# Altium schematic symbol library SCH-95490_A1_Library.SchLib: 55 symbols
Pins are listed as number, name and electrical type; pins without a type are passive.

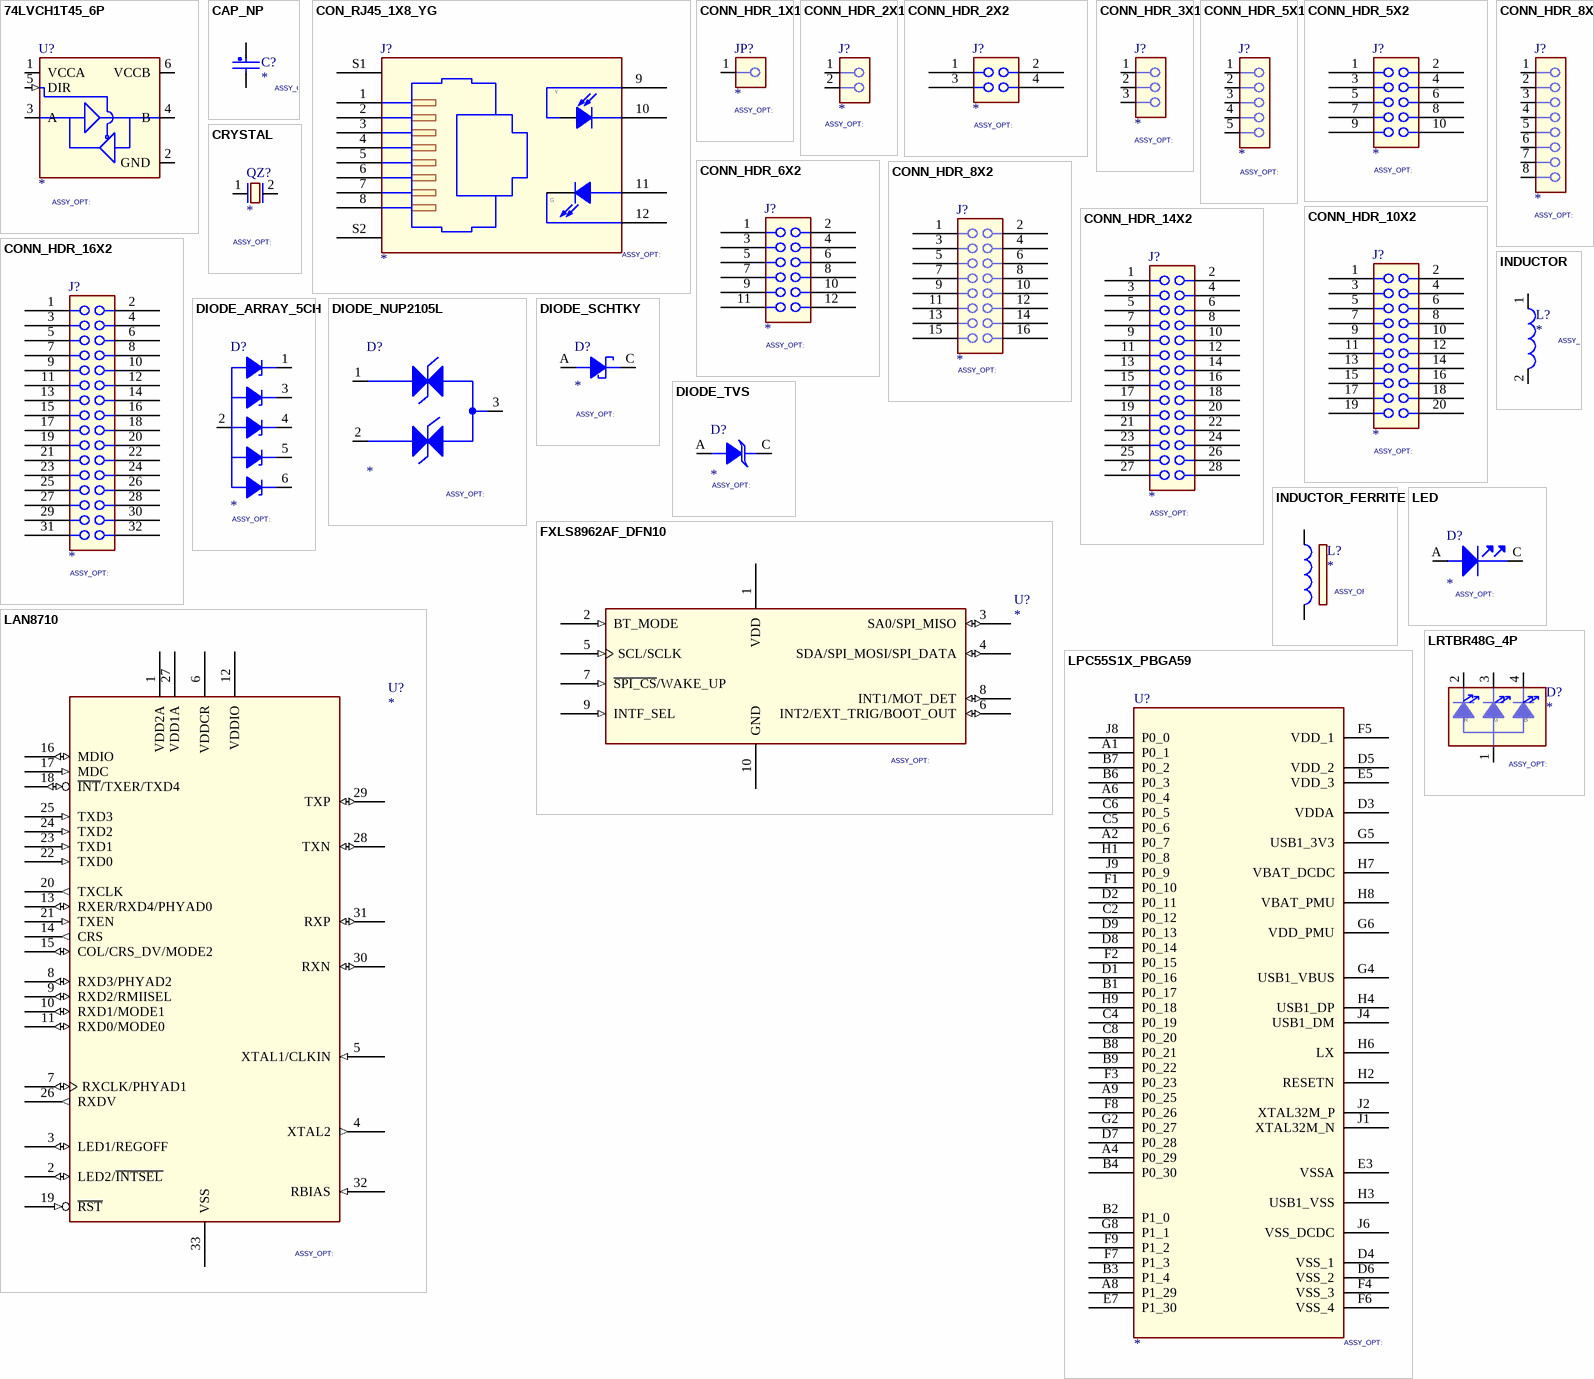
[diagram p0: symbols 74LVCH1T45_6P to LRTBR48G_4P]

## 74LVCH1T45_6P
designator U?
CLASS: IC
pins: 1 VCCA (power), 2 GND (power), 3 A (io), 4 B (io), 5 DIR (in), 6 VCCB (power)

## CAP_NP
designator C?
CLASS: DISCRETE
pins: 1, 2

## CON_RJ45_1X8_YG
designator J?
CLASS: IO
pins: 1, 2, 3, 4, 5, 6, 7, 8, 9, 10, 11, 12, S1 SHIELD_1, S2 SHIELD_2
text: Y; G

## CONN_HDR_1X1
designator JP?
CLASS: IO
pins: 1

## CONN_HDR_2X1
designator J?
CLASS: IO
pins: 1, 2

## CONN_HDR_2X2
designator J?
CLASS: IO
pins: 1 A1, 2 B1, 3 A2, 4 B2

## CONN_HDR_3X1
designator J?
CLASS: IO
pins: 1, 2, 3

## CONN_HDR_5X1
designator J?
CLASS: IO
pins: 1, 2, 3, 4, 5

## CONN_HDR_5X2
designator J?
CLASS: IO
pins: 1 A1, 2 B1, 3 A2, 4 B2, 5 A3, 6 B3, 7 A4, 8 B4, 9 A5, 10 B5

## CONN_HDR_6X2
designator J?
CLASS: IO
pins: 1 A1, 2 B1, 3 A2, 4 B2, 5 A3, 6 B3, 7 A4, 8 B4, 9 A5, 10 B5, 11 A6, 12 B6

## CONN_HDR_8X1
designator J?
CLASS: IO
pins: 1, 2, 3, 4, 5, 6, 7, 8

## CONN_HDR_8X2
designator J?
CLASS: IO
pins: 1 A1, 2 B1, 3 A2, 4 B2, 5 A3, 6 B3, 7 A4, 8 B4, 9 A5, 10 B5, 11 A6, 12 B6, 13 A7, 14 B7, 15 A8, 16 B8

## CONN_HDR_10X2
designator J?
CLASS: IO
pins: 1, 2, 3, 4, 5, 6, 7, 8, 9, 10, 11, 12, 13, 14, 15, 16, 17, 18, 19, 20

## CONN_HDR_14X2
designator J?
CLASS: IO
pins: 1 A1, 2 B1, 3 A2, 4 B2, 5 A3, 6 B3, 7 A4, 8 B4, 9 A5, 10 B5, 11 A6, 12 B6, 13 A7, 14 B7, 15 A8, 16 B8, 17 A9, 18 B9, 19 A10, 20 B10, 21 A11, 22 B11, 23 A12, 24 B12, 25 A13, 26 B13, 27 A14, 28 B14

## CONN_HDR_16X2
designator J?
CLASS: IO
pins: 1 A1, 2 B1, 3 A2, 4 B2, 5 A3, 6 B3, 7 A4, 8 B4, 9 A5, 10 B5, 11 A6, 12 B6, 13 A7, 14 B7, 15 A8, 16 B8, 17 A9, 18 B9, 19 A10, 20 B10, 21 A11, 22 B11, 23 A12, 24 B12, 25 A13, 26 B13, 27 A14, 28 B14, 29 A15, 30 B15, 31 A16, 32 B16

## CRYSTAL
designator QZ?
CLASS: IC
pins: 1, 2

## DIODE_ARRAY_5CH
designator D?
CLASS: IC
pins: 1 K1, 2 A, 3 K2, 4 K3, 5 K4, 6 K5

## DIODE_NUP2105L
designator D?
CLASS: IC
pins: 1 CATHODE1, 2 CATHODE2, 3 ANODES

## DIODE_SCHTKY
designator D?
CLASS: IC
pins: A, C

## DIODE_TVS
designator D?
CLASS: IC
pins: A, C

## FXLS8962AF_DFN10
designator U?
CLASS: IC
pins: 1 VDD (power), 2 BT_MODE (in), 3 SA0/SPI_MISO (io), 4 SDA/SPI_MOSI/SPI_DATA (io), 5 SCL/SCLK (in), 6 INT2/EXT_TRIG/BOOT_OUT (io), 7 ~{SPI_CS}/WAKE_UP (in), 8 INT1/MOT_DET (io), 9 INTF_SEL (in), 10 GND (power)

## INDUCTOR
designator L?
CLASS: DISCRETE
pins: 1, 2

## INDUCTOR_FERRITE
designator L?
CLASS: DISCRETE
pins: 1, 2

## LAN8710
designator U?
CLASS: IC
pins: 1 VDD2A (power), 2 LED2/~{INTSEL} (io), 3 LED1/REGOFF (io), 4 XTAL2 (out), 5 XTAL1/CLKIN (in), 6 VDDCR (power), 7 RXCLK/PHYAD1 (io), 8 RXD3/PHYAD2 (io), 9 RXD2/RMIISEL (io), 10 RXD1/MODE1 (io), 11 RXD0/MODE0 (io), 12 VDDIO (power), 13 RXER/RXD4/PHYAD0 (io), 14 CRS (out), 15 COL/CRS_DV/MODE2 (io), 16 MDIO (io), 17 MDC (in), 18 ~{INT}/TXER/TXD4 (io), 19 ~{RST} (in), 20 TXCLK (out), 21 TXEN (in), 22 TXD0 (in), 23 TXD1 (in), 24 TXD2 (in), 25 TXD3 (in), 26 RXDV (out), 27 VDD1A (power), 28 TXN (io), 29 TXP (io), 30 RXN (io), 31 RXP (io), 32 RBIAS (in), 33 VSS (power)

## LED
designator D?
CLASS: IC
pins: A ANODE, C CATHODE

## LPC55S1X_PBGA59
designator U?
CLASS: IC
pins: A1 P0_1, A2 P0_7, A4 P0_29, A6 P0_4, A8 P1_29, A9 P0_25, B1 P0_17, B2 P1_0, B3 P1_4, B4 P0_30, B6 P0_3, B7 P0_2, B8 P0_21, B9 P0_22, C2 P0_12, C4 P0_19, C5 P0_6, C6 P0_5, C8 P0_20, D1 P0_16, D2 P0_11, D3 VDDA (power), D4 VSS_1 (power), D5 VDD_2 (power), D6 VSS_2 (power), D7 P0_28, D8 P0_14, D9 P0_13, E3 VSSA (power), E5 VDD_3 (power), E7 P1_30, F1 P0_10, F2 P0_15, F3 P0_23, F4 VSS_3 (power), F5 VDD_1 (power), F6 VSS_4 (power), F7 P1_3, F8 P0_26, F9 P1_2, G2 P0_27, G4 USB1_VBUS (power), G5 USB1_3V3 (power), G6 VDD_PMU (power), G8 P1_1, H1 P0_8, H2 RESETN, H3 USB1_VSS (power), H4 USB1_DP, H6 LX, H7 VBAT_DCDC (power), H8 VBAT_PMU (power), H9 P0_18, J1 XTAL32M_N, J2 XTAL32M_P, J4 USB1_DM, J6 VSS_DCDC (power), J8 P0_0, J9 P0_9

## LRTBR48G_4P
designator D?
CLASS: IC
pins: 1 ANODE, 2 CATHODE1, 3 CATHODE2, 4 CATHODE3
text: R; G; B

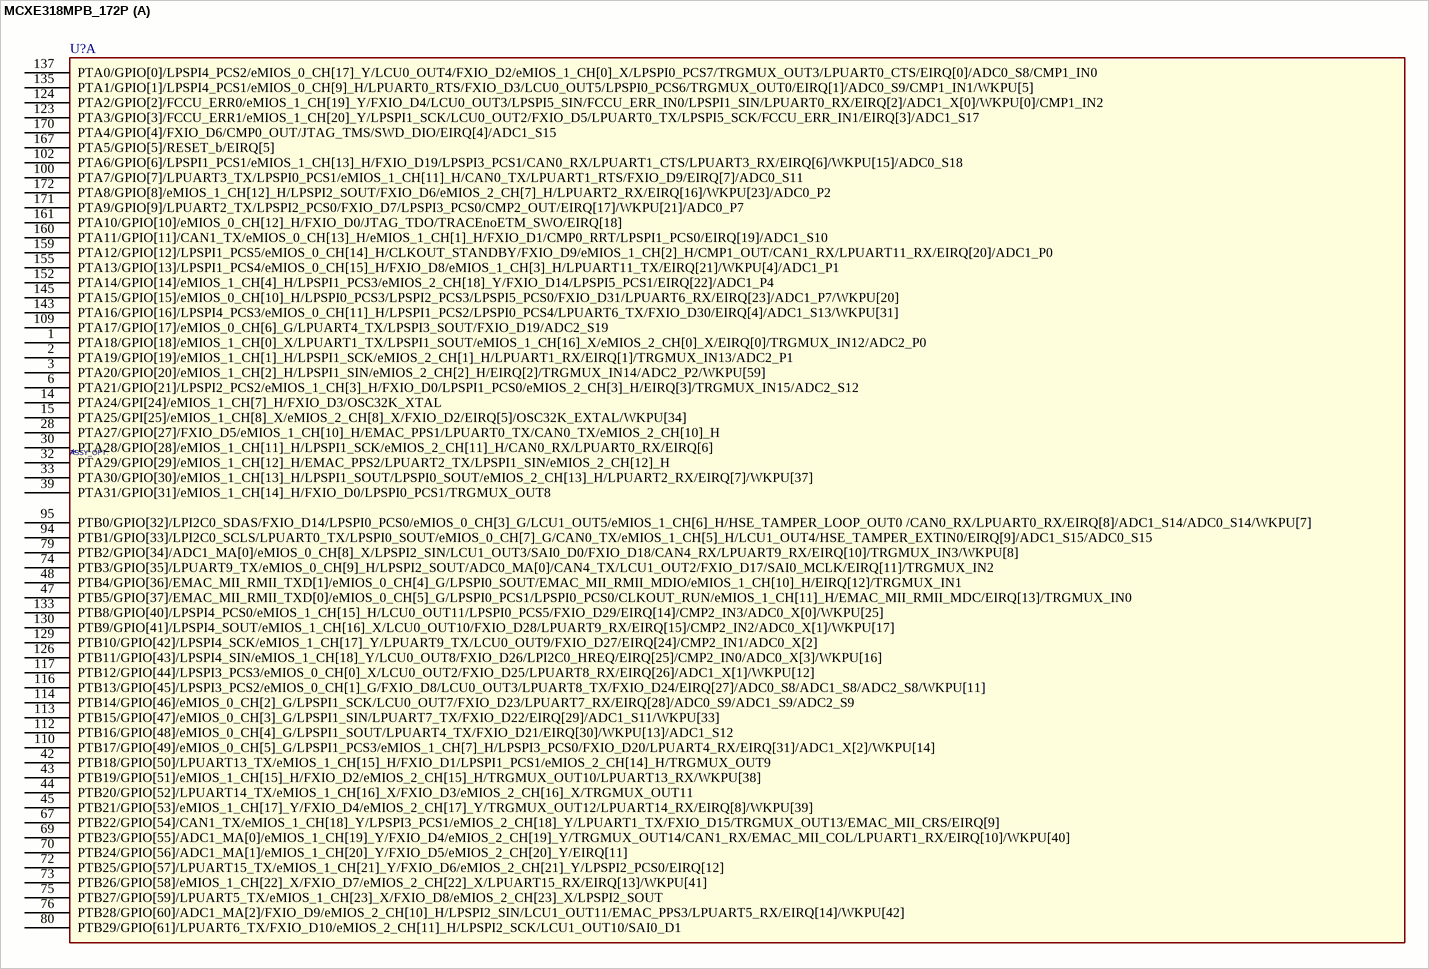
[diagram p1: symbol MCXE318MPB_172P]

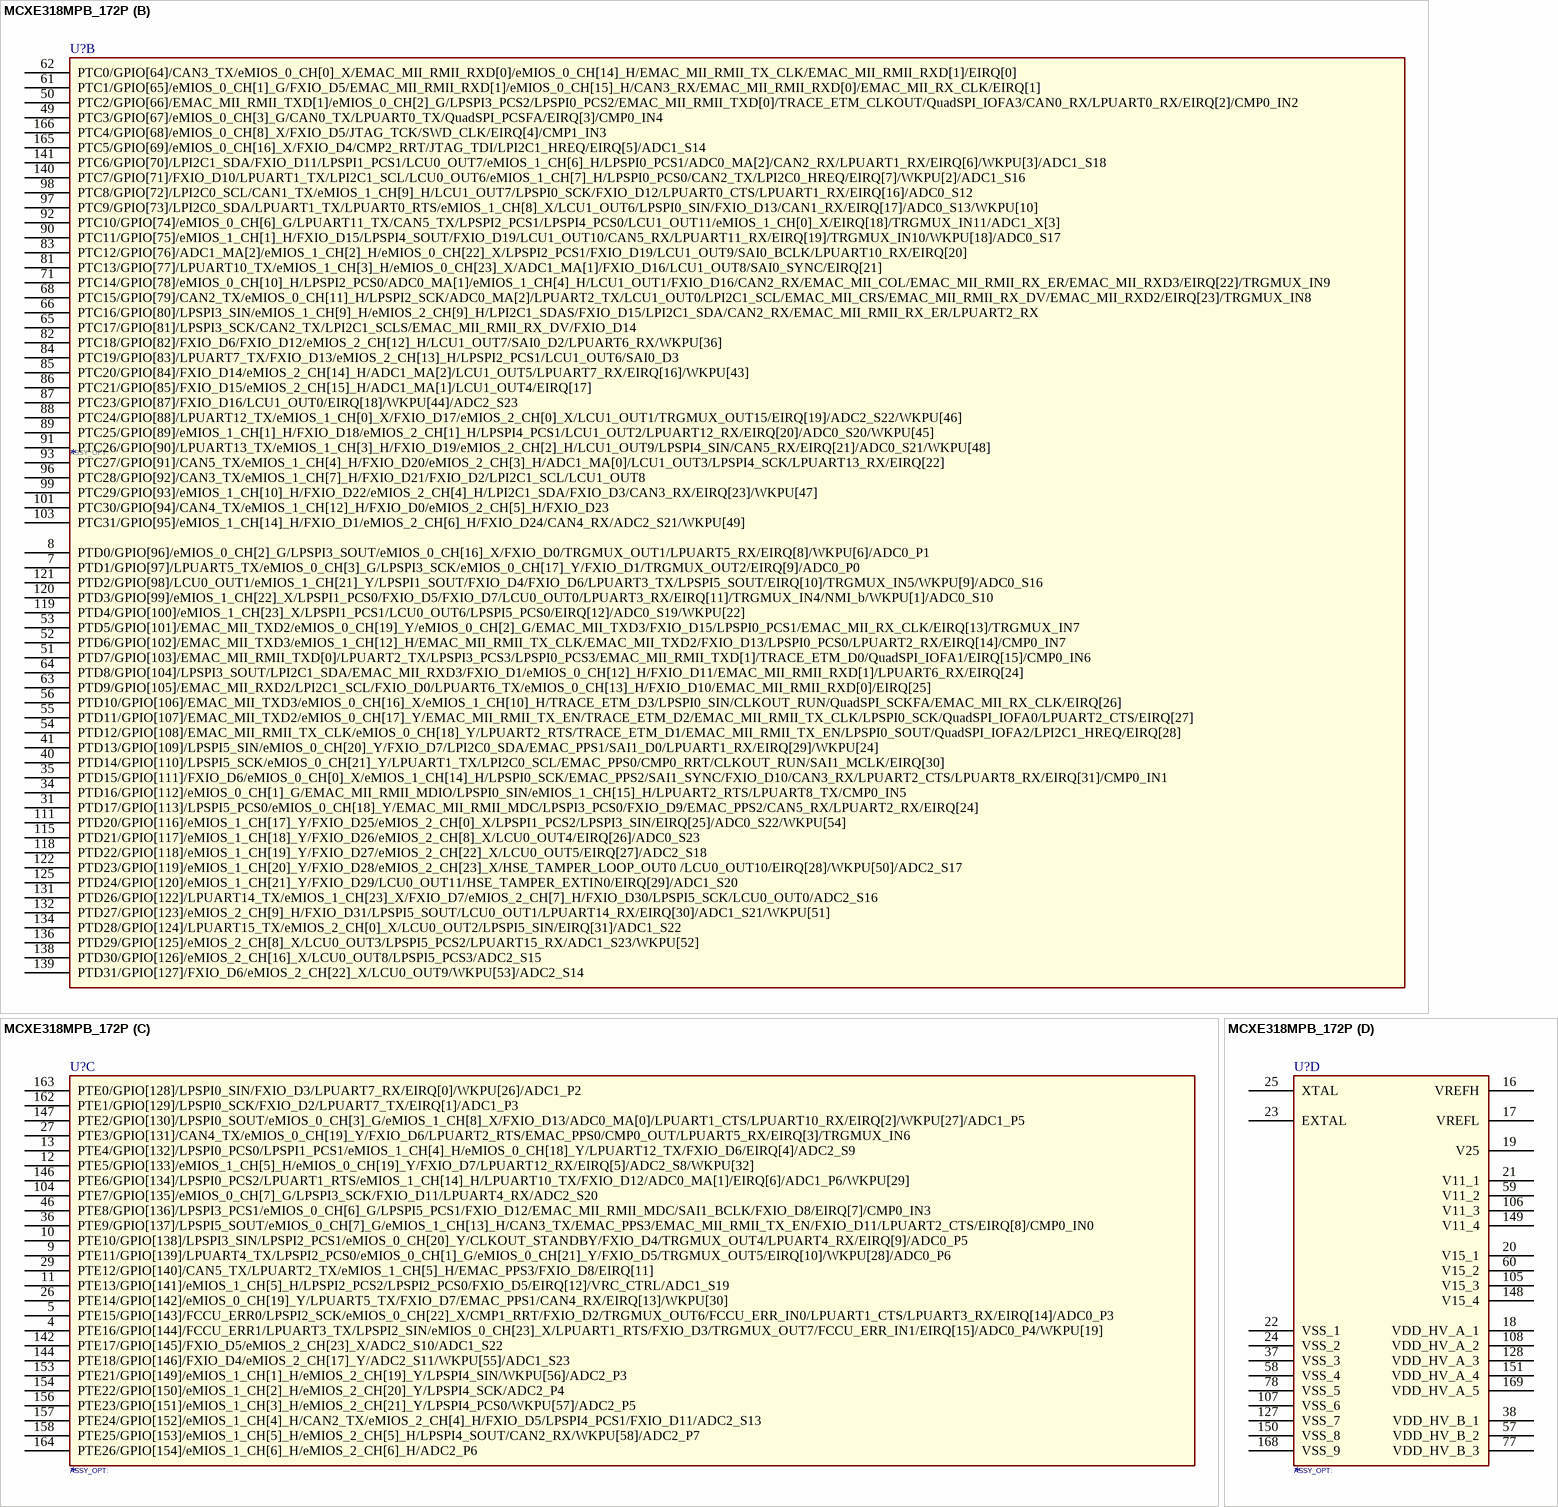
[diagram p2: symbol MCXE318MPB_172P]

## MCXE318MPB_172P
designator U?
CLASS: IC
part A pins: 1 PTA18/GPIO[18]/eMIOS_1_CH[0]_X/LPUART1_TX/LPSPI1_SOUT/eMIOS_1_CH[16]_X/eMIOS_2_CH[0]_X/EIRQ[0]/TRGMUX_IN12/ADC2_P0, 2 PTA19/GPIO[19]/eMIOS_1_CH[1]_H/LPSPI1_SCK/eMIOS_2_CH[1]_H/LPUART1_RX/EIRQ[1]/TRGMUX_IN13/ADC2_P1, 3 PTA20/GPIO[20]/eMIOS_1_CH[2]_H/LPSPI1_SIN/eMIOS_2_CH[2]_H/EIRQ[2]/TRGMUX_IN14/ADC2_P2/WKPU[59], 6 PTA21/GPIO[21]/LPSPI2_PCS2/eMIOS_1_CH[3]_H/FXIO_D0/LPSPI1_PCS0/eMIOS_2_CH[3]_H/EIRQ[3]/TRGMUX_IN15/ADC2_S12, 14 PTA24/GPI[24]/eMIOS_1_CH[7]_H/FXIO_D3/OSC32K_XTAL, 15 PTA25/GPI[25]/eMIOS_1_CH[8]_X/eMIOS_2_CH[8]_X/FXIO_D2/EIRQ[5]/OSC32K_EXTAL/WKPU[34], 28 PTA27/GPIO[27]/FXIO_D5/eMIOS_1_CH[10]_H/EMAC_PPS1/LPUART0_TX/CAN0_TX/eMIOS_2_CH[10]_H, 30 PTA28/GPIO[28]/eMIOS_1_CH[11]_H/LPSPI1_SCK/eMIOS_2_CH[11]_H/CAN0_RX/LPUART0_RX/EIRQ[6], 32 PTA29/GPIO[29]/eMIOS_1_CH[12]_H/EMAC_PPS2/LPUART2_TX/LPSPI1_SIN/eMIOS_2_CH[12]_H, 33 PTA30/GPIO[30]/eMIOS_1_CH[13]_H/LPSPI1_SOUT/LPSPI0_SOUT/eMIOS_2_CH[13]_H/LPUART2_RX/EIRQ[7]/WKPU[37], 39 PTA31/GPIO[31]/eMIOS_1_CH[14]_H/FXIO_D0/LPSPI0_PCS1/TRGMUX_OUT8, 42 PTB18/GPIO[50]/LPUART13_TX/eMIOS_1_CH[15]_H/FXIO_D1/LPSPI1_PCS1/eMIOS_2_CH[14]_H/TRGMUX_OUT9, 43 PTB19/GPIO[51]/eMIOS_1_CH[15]_H/FXIO_D2/eMIOS_2_CH[15]_H/TRGMUX_OUT10/LPUART13_RX/WKPU[38], 44 PTB20/GPIO[52]/LPUART14_TX/eMIOS_1_CH[16]_X/FXIO_D3/eMIOS_2_CH[16]_X/TRGMUX_OUT11, 45 PTB21/GPIO[53]/eMIOS_1_CH[17]_Y/FXIO_D4/eMIOS_2_CH[17]_Y/TRGMUX_OUT12/LPUART14_RX/EIRQ[8]/WKPU[39], 47 PTB5/GPIO[37]/EMAC_MII_RMII_TXD[0]/eMIOS_0_CH[5]_G/LPSPI0_PCS1/LPSPI0_PCS0/CLKOUT_RUN/eMIOS_1_CH[11]_H/EMAC_MII_RMII_MDC/EIRQ[13]/TRGMUX_IN0, 48 PTB4/GPIO[36]/EMAC_MII_RMII_TXD[1]/eMIOS_0_CH[4]_G/LPSPI0_SOUT/EMAC_MII_RMII_MDIO/eMIOS_1_CH[10]_H/EIRQ[12]/TRGMUX_IN1, 67 PTB22/GPIO[54]/CAN1_TX/eMIOS_1_CH[18]_Y/LPSPI3_PCS1/eMIOS_2_CH[18]_Y/LPUART1_TX/FXIO_D15/TRGMUX_OUT13/EMAC_MII_CRS/EIRQ[9], 69 PTB23/GPIO[55]/ADC1_MA[0]/eMIOS_1_CH[19]_Y/FXIO_D4/eMIOS_2_CH[19]_Y/TRGMUX_OUT14/CAN1_RX/EMAC_MII_COL/LPUART1_RX/EIRQ[10]/WKPU[40], 70 PTB24/GPIO[56]/ADC1_MA[1]/eMIOS_1_CH[20]_Y/FXIO_D5/eMIOS_2_CH[20]_Y/EIRQ[11], 72 PTB25/GPIO[57]/LPUART15_TX/eMIOS_1_CH[21]_Y/FXIO_D6/eMIOS_2_CH[21]_Y/LPSPI2_PCS0/EIRQ[12], 73 PTB26/GPIO[58]/eMIOS_1_CH[22]_X/FXIO_D7/eMIOS_2_CH[22]_X/LPUART15_RX/EIRQ[13]/WKPU[41], 74 PTB3/GPIO[35]/LPUART9_TX/eMIOS_0_CH[9]_H/LPSPI2_SOUT/ADC0_MA[0]/CAN4_TX/LCU1_OUT2/FXIO_D17/SAI0_MCLK/EIRQ[11]/TRGMUX_IN2, 75 PTB27/GPIO[59]/LPUART5_TX/eMIOS_1_CH[23]_X/FXIO_D8/eMIOS_2_CH[23]_X/LPSPI2_SOUT, 76 PTB28/GPIO[60]/ADC1_MA[2]/FXIO_D9/eMIOS_2_CH[10]_H/LPSPI2_SIN/LCU1_OUT11/EMAC_PPS3/LPUART5_RX/EIRQ[14]/WKPU[42], 79 PTB2/GPIO[34]/ADC1_MA[0]/eMIOS_0_CH[8]_X/LPSPI2_SIN/LCU1_OUT3/SAI0_D0/FXIO_D18/CAN4_RX/LPUART9_RX/EIRQ[10]/TRGMUX_IN3/WKPU[8], 80 PTB29/GPIO[61]/LPUART6_TX/FXIO_D10/eMIOS_2_CH[11]_H/LPSPI2_SCK/LCU1_OUT10/SAI0_D1, 94 PTB1/GPIO[33]/LPI2C0_SCLS/LPUART0_TX/LPSPI0_SOUT/eMIOS_0_CH[7]_G/CAN0_TX/eMIOS_1_CH[5]_H/LCU1_OUT4/HSE_TAMPER_EXTIN0/EIRQ[9]/ADC1_S15/ADC0_S15, 95 PTB0/GPIO[32]/LPI2C0_SDAS/FXIO_D14/LPSPI0_PCS0/eMIOS_0_CH[3]_G/LCU1_OUT5/eMIOS_1_CH[6]_H/HSE_TAMPER_LOOP_OUT0 /CAN0_RX/LPUART0_RX/EIRQ[8]/ADC1_S14/ADC0_S14/WKPU[7], 100 PTA7/GPIO[7]/LPUART3_TX/LPSPI0_PCS1/eMIOS_1_CH[11]_H/CAN0_TX/LPUART1_RTS/FXIO_D9/EIRQ[7]/ADC0_S11, 102 PTA6/GPIO[6]/LPSPI1_PCS1/eMIOS_1_CH[13]_H/FXIO_D19/LPSPI3_PCS1/CAN0_RX/LPUART1_CTS/LPUART3_RX/EIRQ[6]/WKPU[15]/ADC0_S18, 109 PTA17/GPIO[17]/eMIOS_0_CH[6]_G/LPUART4_TX/LPSPI3_SOUT/FXIO_D19/ADC2_S19, 110 PTB17/GPIO[49]/eMIOS_0_CH[5]_G/LPSPI1_PCS3/eMIOS_1_CH[7]_H/LPSPI3_PCS0/FXIO_D20/LPUART4_RX/EIRQ[31]/ADC1_X[2]/WKPU[14], 112 PTB16/GPIO[48]/eMIOS_0_CH[4]_G/LPSPI1_SOUT/LPUART4_TX/FXIO_D21/EIRQ[30]/WKPU[13]/ADC1_S12, 113 PTB15/GPIO[47]/eMIOS_0_CH[3]_G/LPSPI1_SIN/LPUART7_TX/FXIO_D22/EIRQ[29]/ADC1_S11/WKPU[33], 114 PTB14/GPIO[46]/eMIOS_0_CH[2]_G/LPSPI1_SCK/LCU0_OUT7/FXIO_D23/LPUART7_RX/EIRQ[28]/ADC0_S9/ADC1_S9/ADC2_S9, 116 PTB13/GPIO[45]/LPSPI3_PCS2/eMIOS_0_CH[1]_G/FXIO_D8/LCU0_OUT3/LPUART8_TX/FXIO_D24/EIRQ[27]/ADC0_S8/ADC1_S8/ADC2_S8/WKPU[11], 117 PTB12/GPIO[44]/LPSPI3_PCS3/eMIOS_0_CH[0]_X/LCU0_OUT2/FXIO_D25/LPUART8_RX/EIRQ[26]/ADC1_X[1]/WKPU[12], 123 PTA3/GPIO[3]/FCCU_ERR1/eMIOS_1_CH[20]_Y/LPSPI1_SCK/LCU0_OUT2/FXIO_D5/LPUART0_TX/LPSPI5_SCK/FCCU_ERR_IN1/EIRQ[3]/ADC1_S17, 124 PTA2/GPIO[2]/FCCU_ERR0/eMIOS_1_CH[19]_Y/FXIO_D4/LCU0_OUT3/LPSPI5_SIN/FCCU_ERR_IN0/LPSPI1_SIN/LPUART0_RX/EIRQ[2]/ADC1_X[0]/WKPU[0]/CMP1_IN2, 126 PTB11/GPIO[43]/LPSPI4_SIN/eMIOS_1_CH[18]_Y/LCU0_OUT8/FXIO_D26/LPI2C0_HREQ/EIRQ[25]/CMP2_IN0/ADC0_X[3]/WKPU[16], 129 PTB10/GPIO[42]/LPSPI4_SCK/eMIOS_1_CH[17]_Y/LPUART9_TX/LCU0_OUT9/FXIO_D27/EIRQ[24]/CMP2_IN1/ADC0_X[2], 130 PTB9/GPIO[41]/LPSPI4_SOUT/eMIOS_1_CH[16]_X/LCU0_OUT10/FXIO_D28/LPUART9_RX/EIRQ[15]/CMP2_IN2/ADC0_X[1]/WKPU[17], 133 PTB8/GPIO[40]/LPSPI4_PCS0/eMIOS_1_CH[15]_H/LCU0_OUT11/LPSPI0_PCS5/FXIO_D29/EIRQ[14]/CMP2_IN3/ADC0_X[0]/WKPU[25], 135 PTA1/GPIO[1]/LPSPI4_PCS1/eMIOS_0_CH[9]_H/LPUART0_RTS/FXIO_D3/LCU0_OUT5/LPSPI0_PCS6/TRGMUX_OUT0/EIRQ[1]/ADC0_S9/CMP1_IN1/WKPU[5], 137 PTA0/GPIO[0]/LPSPI4_PCS2/eMIOS_0_CH[17]_Y/LCU0_OUT4/FXIO_D2/eMIOS_1_CH[0]_X/LPSPI0_PCS7/TRGMUX_OUT3/LPUART0_CTS/EIRQ[0]/ADC0_S8/CMP1_IN0, 143 PTA16/GPIO[16]/LPSPI4_PCS3/eMIOS_0_CH[11]_H/LPSPI1_PCS2/LPSPI0_PCS4/LPUART6_TX/FXIO_D30/EIRQ[4]/ADC1_S13/WKPU[31], 145 PTA15/GPIO[15]/eMIOS_0_CH[10]_H/LPSPI0_PCS3/LPSPI2_PCS3/LPSPI5_PCS0/FXIO_D31/LPUART6_RX/EIRQ[23]/ADC1_P7/WKPU[20], 152 PTA14/GPIO[14]/eMIOS_1_CH[4]_H/LPSPI1_PCS3/eMIOS_2_CH[18]_Y/FXIO_D14/LPSPI5_PCS1/EIRQ[22]/ADC1_P4, 155 PTA13/GPIO[13]/LPSPI1_PCS4/eMIOS_0_CH[15]_H/FXIO_D8/eMIOS_1_CH[3]_H/LPUART11_TX/EIRQ[21]/WKPU[4]/ADC1_P1, 159 PTA12/GPIO[12]/LPSPI1_PCS5/eMIOS_0_CH[14]_H/CLKOUT_STANDBY/FXIO_D9/eMIOS_1_CH[2]_H/CMP1_OUT/CAN1_RX/LPUART11_RX/EIRQ[20]/ADC1_P0, 160 PTA11/GPIO[11]/CAN1_TX/eMIOS_0_CH[13]_H/eMIOS_1_CH[1]_H/FXIO_D1/CMP0_RRT/LPSPI1_PCS0/EIRQ[19]/ADC1_S10, 161 PTA10/GPIO[10]/eMIOS_0_CH[12]_H/FXIO_D0/JTAG_TDO/TRACEnoETM_SWO/EIRQ[18], 167 PTA5/GPIO[5]/RESET_b/EIRQ[5], 170 PTA4/GPIO[4]/FXIO_D6/CMP0_OUT/JTAG_TMS/SWD_DIO/EIRQ[4]/ADC1_S15, 171 PTA9/GPIO[9]/LPUART2_TX/LPSPI2_PCS0/FXIO_D7/LPSPI3_PCS0/CMP2_OUT/EIRQ[17]/WKPU[21]/ADC0_P7, 172 PTA8/GPIO[8]/eMIOS_1_CH[12]_H/LPSPI2_SOUT/FXIO_D6/eMIOS_2_CH[7]_H/LPUART2_RX/EIRQ[16]/WKPU[23]/ADC0_P2
part B pins: 7 PTD1/GPIO[97]/LPUART5_TX/eMIOS_0_CH[3]_G/LPSPI3_SCK/eMIOS_0_CH[17]_Y/FXIO_D1/TRGMUX_OUT2/EIRQ[9]/ADC0_P0, 8 PTD0/GPIO[96]/eMIOS_0_CH[2]_G/LPSPI3_SOUT/eMIOS_0_CH[16]_X/FXIO_D0/TRGMUX_OUT1/LPUART5_RX/EIRQ[8]/WKPU[6]/ADC0_P1, 31 PTD17/GPIO[113]/LPSPI5_PCS0/eMIOS_0_CH[18]_Y/EMAC_MII_RMII_MDC/LPSPI3_PCS0/FXIO_D9/EMAC_PPS2/CAN5_RX/LPUART2_RX/EIRQ[24], 34 PTD16/GPIO[112]/eMIOS_0_CH[1]_G/EMAC_MII_RMII_MDIO/LPSPI0_SIN/eMIOS_1_CH[15]_H/LPUART2_RTS/LPUART8_TX/CMP0_IN5, 35 PTD15/GPIO[111]/FXIO_D6/eMIOS_0_CH[0]_X/eMIOS_1_CH[14]_H/LPSPI0_SCK/EMAC_PPS2/SAI1_SYNC/FXIO_D10/CAN3_RX/LPUART2_CTS/LPUART8_RX/EIRQ[31]/CMP0_IN1, 40 PTD14/GPIO[110]/LPSPI5_SCK/eMIOS_0_CH[21]_Y/LPUART1_TX/LPI2C0_SCL/EMAC_PPS0/CMP0_RRT/CLKOUT_RUN/SAI1_MCLK/EIRQ[30], 41 PTD13/GPIO[109]/LPSPI5_SIN/eMIOS_0_CH[20]_Y/FXIO_D7/LPI2C0_SDA/EMAC_PPS1/SAI1_D0/LPUART1_RX/EIRQ[29]/WKPU[24], 49 PTC3/GPIO[67]/eMIOS_0_CH[3]_G/CAN0_TX/LPUART0_TX/QuadSPI_PCSFA/EIRQ[3]/CMP0_IN4, 50 PTC2/GPIO[66]/EMAC_MII_RMII_TXD[1]/eMIOS_0_CH[2]_G/LPSPI3_PCS2/LPSPI0_PCS2/EMAC_MII_RMII_TXD[0]/TRACE_ETM_CLKOUT/QuadSPI_IOFA3/CAN0_RX/LPUART0_RX/EIRQ[2]/CMP0_IN2, 51 PTD7/GPIO[103]/EMAC_MII_RMII_TXD[0]/LPUART2_TX/LPSPI3_PCS3/LPSPI0_PCS3/EMAC_MII_RMII_TXD[1]/TRACE_ETM_D0/QuadSPI_IOFA1/EIRQ[15]/CMP0_IN6, 52 PTD6/GPIO[102]/EMAC_MII_TXD3/eMIOS_1_CH[12]_H/EMAC_MII_RMII_TX_CLK/EMAC_MII_TXD2/FXIO_D13/LPSPI0_PCS0/LPUART2_RX/EIRQ[14]/CMP0_IN7, 53 PTD5/GPIO[101]/EMAC_MII_TXD2/eMIOS_0_CH[19]_Y/eMIOS_0_CH[2]_G/EMAC_MII_TXD3/FXIO_D15/LPSPI0_PCS1/EMAC_MII_RX_CLK/EIRQ[13]/TRGMUX_IN7, 54 PTD12/GPIO[108]/EMAC_MII_RMII_TX_CLK/eMIOS_0_CH[18]_Y/LPUART2_RTS/TRACE_ETM_D1/EMAC_MII_RMII_TX_EN/LPSPI0_SOUT/QuadSPI_IOFA2/LPI2C1_HREQ/EIRQ[28], 55 PTD11/GPIO[107]/EMAC_MII_TXD2/eMIOS_0_CH[17]_Y/EMAC_MII_RMII_TX_EN/TRACE_ETM_D2/EMAC_MII_RMII_TX_CLK/LPSPI0_SCK/QuadSPI_IOFA0/LPUART2_CTS/EIRQ[27], 56 PTD10/GPIO[106]/EMAC_MII_TXD3/eMIOS_0_CH[16]_X/eMIOS_1_CH[10]_H/TRACE_ETM_D3/LPSPI0_SIN/CLKOUT_RUN/QuadSPI_SCKFA/EMAC_MII_RX_CLK/EIRQ[26], 61 PTC1/GPIO[65]/eMIOS_0_CH[1]_G/FXIO_D5/EMAC_MII_RMII_RXD[1]/eMIOS_0_CH[15]_H/CAN3_RX/EMAC_MII_RMII_RXD[0]/EMAC_MII_RX_CLK/EIRQ[1], 62 PTC0/GPIO[64]/CAN3_TX/eMIOS_0_CH[0]_X/EMAC_MII_RMII_RXD[0]/eMIOS_0_CH[14]_H/EMAC_MII_RMII_TX_CLK/EMAC_MII_RMII_RXD[1]/EIRQ[0], 63 PTD9/GPIO[105]/EMAC_MII_RXD2/LPI2C1_SCL/FXIO_D0/LPUART6_TX/eMIOS_0_CH[13]_H/FXIO_D10/EMAC_MII_RMII_RXD[0]/EIRQ[25], 64 PTD8/GPIO[104]/LPSPI3_SOUT/LPI2C1_SDA/EMAC_MII_RXD3/FXIO_D1/eMIOS_0_CH[12]_H/FXIO_D11/EMAC_MII_RMII_RXD[1]/LPUART6_RX/EIRQ[24], 65 PTC17/GPIO[81]/LPSPI3_SCK/CAN2_TX/LPI2C1_SCLS/EMAC_MII_RMII_RX_DV/FXIO_D14, 66 PTC16/GPIO[80]/LPSPI3_SIN/eMIOS_1_CH[9]_H/eMIOS_2_CH[9]_H/LPI2C1_SDAS/FXIO_D15/LPI2C1_SDA/CAN2_RX/EMAC_MII_RMII_RX_ER/LPUART2_RX, 68 PTC15/GPIO[79]/CAN2_TX/eMIOS_0_CH[11]_H/LPSPI2_SCK/ADC0_MA[2]/LPUART2_TX/LCU1_OUT0/LPI2C1_SCL/EMAC_MII_CRS/EMAC_MII_RMII_RX_DV/EMAC_MII_RXD2/EIRQ[23]/TRGMUX_IN8, 71 PTC14/GPIO[78]/eMIOS_0_CH[10]_H/LPSPI2_PCS0/ADC0_MA[1]/eMIOS_1_CH[4]_H/LCU1_OUT1/FXIO_D16/CAN2_RX/EMAC_MII_COL/EMAC_MII_RMII_RX_ER/EMAC_MII_RXD3/EIRQ[22]/TRGMUX_IN9, 81 PTC13/GPIO[77]/LPUART10_TX/eMIOS_1_CH[3]_H/eMIOS_0_CH[23]_X/ADC1_MA[1]/FXIO_D16/LCU1_OUT8/SAI0_SYNC/EIRQ[21], 82 PTC18/GPIO[82]/FXIO_D6/FXIO_D12/eMIOS_2_CH[12]_H/LCU1_OUT7/SAI0_D2/LPUART6_RX/WKPU[36], 83 PTC12/GPIO[76]/ADC1_MA[2]/eMIOS_1_CH[2]_H/eMIOS_0_CH[22]_X/LPSPI2_PCS1/FXIO_D19/LCU1_OUT9/SAI0_BCLK/LPUART10_RX/EIRQ[20], 84 PTC19/GPIO[83]/LPUART7_TX/FXIO_D13/eMIOS_2_CH[13]_H/LPSPI2_PCS1/LCU1_OUT6/SAI0_D3, 85 PTC20/GPIO[84]/FXIO_D14/eMIOS_2_CH[14]_H/ADC1_MA[2]/LCU1_OUT5/LPUART7_RX/EIRQ[16]/WKPU[43], 86 PTC21/GPIO[85]/FXIO_D15/eMIOS_2_CH[15]_H/ADC1_MA[1]/LCU1_OUT4/EIRQ[17], 87 PTC23/GPIO[87]/FXIO_D16/LCU1_OUT0/EIRQ[18]/WKPU[44]/ADC2_S23, 88 PTC24/GPIO[88]/LPUART12_TX/eMIOS_1_CH[0]_X/FXIO_D17/eMIOS_2_CH[0]_X/LCU1_OUT1/TRGMUX_OUT15/EIRQ[19]/ADC2_S22/WKPU[46], 89 PTC25/GPIO[89]/eMIOS_1_CH[1]_H/FXIO_D18/eMIOS_2_CH[1]_H/LPSPI4_PCS1/LCU1_OUT2/LPUART12_RX/EIRQ[20]/ADC0_S20/WKPU[45], 90 PTC11/GPIO[75]/eMIOS_1_CH[1]_H/FXIO_D15/LPSPI4_SOUT/FXIO_D19/LCU1_OUT10/CAN5_RX/LPUART11_RX/EIRQ[19]/TRGMUX_IN10/WKPU[18]/ADC0_S17, 91 PTC26/GPIO[90]/LPUART13_TX/eMIOS_1_CH[3]_H/FXIO_D19/eMIOS_2_CH[2]_H/LCU1_OUT9/LPSPI4_SIN/CAN5_RX/EIRQ[21]/ADC0_S21/WKPU[48], 92 PTC10/GPIO[74]/eMIOS_0_CH[6]_G/LPUART11_TX/CAN5_TX/LPSPI2_PCS1/LPSPI4_PCS0/LCU1_OUT11/eMIOS_1_CH[0]_X/EIRQ[18]/TRGMUX_IN11/ADC1_X[3], 93 PTC27/GPIO[91]/CAN5_TX/eMIOS_1_CH[4]_H/FXIO_D20/eMIOS_2_CH[3]_H/ADC1_MA[0]/LCU1_OUT3/LPSPI4_SCK/LPUART13_RX/EIRQ[22], 96 PTC28/GPIO[92]/CAN3_TX/eMIOS_1_CH[7]_H/FXIO_D21/FXIO_D2/LPI2C1_SCL/LCU1_OUT8, 97 PTC9/GPIO[73]/LPI2C0_SDA/LPUART1_TX/LPUART0_RTS/eMIOS_1_CH[8]_X/LCU1_OUT6/LPSPI0_SIN/FXIO_D13/CAN1_RX/EIRQ[17]/ADC0_S13/WKPU[10], 98 PTC8/GPIO[72]/LPI2C0_SCL/CAN1_TX/eMIOS_1_CH[9]_H/LCU1_OUT7/LPSPI0_SCK/FXIO_D12/LPUART0_CTS/LPUART1_RX/EIRQ[16]/ADC0_S12, 99 PTC29/GPIO[93]/eMIOS_1_CH[10]_H/FXIO_D22/eMIOS_2_CH[4]_H/LPI2C1_SDA/FXIO_D3/CAN3_RX/EIRQ[23]/WKPU[47], 101 PTC30/GPIO[94]/CAN4_TX/eMIOS_1_CH[12]_H/FXIO_D0/eMIOS_2_CH[5]_H/FXIO_D23, 103 PTC31/GPIO[95]/eMIOS_1_CH[14]_H/FXIO_D1/eMIOS_2_CH[6]_H/FXIO_D24/CAN4_RX/ADC2_S21/WKPU[49], 111 PTD20/GPIO[116]/eMIOS_1_CH[17]_Y/FXIO_D25/eMIOS_2_CH[0]_X/LPSPI1_PCS2/LPSPI3_SIN/EIRQ[25]/ADC0_S22/WKPU[54], 115 PTD21/GPIO[117]/eMIOS_1_CH[18]_Y/FXIO_D26/eMIOS_2_CH[8]_X/LCU0_OUT4/EIRQ[26]/ADC0_S23, 118 PTD22/GPIO[118]/eMIOS_1_CH[19]_Y/FXIO_D27/eMIOS_2_CH[22]_X/LCU0_OUT5/EIRQ[27]/ADC2_S18, 119 PTD4/GPIO[100]/eMIOS_1_CH[23]_X/LPSPI1_PCS1/LCU0_OUT6/LPSPI5_PCS0/EIRQ[12]/ADC0_S19/WKPU[22], 120 PTD3/GPIO[99]/eMIOS_1_CH[22]_X/LPSPI1_PCS0/FXIO_D5/FXIO_D7/LCU0_OUT0/LPUART3_RX/EIRQ[11]/TRGMUX_IN4/NMI_b/WKPU[1]/ADC0_S10, 121 PTD2/GPIO[98]/LCU0_OUT1/eMIOS_1_CH[21]_Y/LPSPI1_SOUT/FXIO_D4/FXIO_D6/LPUART3_TX/LPSPI5_SOUT/EIRQ[10]/TRGMUX_IN5/WKPU[9]/ADC0_S16, 122 PTD23/GPIO[119]/eMIOS_1_CH[20]_Y/FXIO_D28/eMIOS_2_CH[23]_X/HSE_TAMPER_LOOP_OUT0 /LCU0_OUT10/EIRQ[28]/WKPU[50]/ADC2_S17, 125 PTD24/GPIO[120]/eMIOS_1_CH[21]_Y/FXIO_D29/LCU0_OUT11/HSE_TAMPER_EXTIN0/EIRQ[29]/ADC1_S20, 131 PTD26/GPIO[122]/LPUART14_TX/eMIOS_1_CH[23]_X/FXIO_D7/eMIOS_2_CH[7]_H/FXIO_D30/LPSPI5_SCK/LCU0_OUT0/ADC2_S16, 132 PTD27/GPIO[123]/eMIOS_2_CH[9]_H/FXIO_D31/LPSPI5_SOUT/LCU0_OUT1/LPUART14_RX/EIRQ[30]/ADC1_S21/WKPU[51], 134 PTD28/GPIO[124]/LPUART15_TX/eMIOS_2_CH[0]_X/LCU0_OUT2/LPSPI5_SIN/EIRQ[31]/ADC1_S22, 136 PTD29/GPIO[125]/eMIOS_2_CH[8]_X/LCU0_OUT3/LPSPI5_PCS2/LPUART15_RX/ADC1_S23/WKPU[52], 138 PTD30/GPIO[126]/eMIOS_2_CH[16]_X/LCU0_OUT8/LPSPI5_PCS3/ADC2_S15, 139 PTD31/GPIO[127]/FXIO_D6/eMIOS_2_CH[22]_X/LCU0_OUT9/WKPU[53]/ADC2_S14, 140 PTC7/GPIO[71]/FXIO_D10/LPUART1_TX/LPI2C1_SCL/LCU0_OUT6/eMIOS_1_CH[7]_H/LPSPI0_PCS0/CAN2_TX/LPI2C0_HREQ/EIRQ[7]/WKPU[2]/ADC1_S16, 141 PTC6/GPIO[70]/LPI2C1_SDA/FXIO_D11/LPSPI1_PCS1/LCU0_OUT7/eMIOS_1_CH[6]_H/LPSPI0_PCS1/ADC0_MA[2]/CAN2_RX/LPUART1_RX/EIRQ[6]/WKPU[3]/ADC1_S18, 165 PTC5/GPIO[69]/eMIOS_0_CH[16]_X/FXIO_D4/CMP2_RRT/JTAG_TDI/LPI2C1_HREQ/EIRQ[5]/ADC1_S14, 166 PTC4/GPIO[68]/eMIOS_0_CH[8]_X/FXIO_D5/JTAG_TCK/SWD_CLK/EIRQ[4]/CMP1_IN3
part C pins: 4 PTE16/GPIO[144]/FCCU_ERR1/LPUART3_TX/LPSPI2_SIN/eMIOS_0_CH[23]_X/LPUART1_RTS/FXIO_D3/TRGMUX_OUT7/FCCU_ERR_IN1/EIRQ[15]/ADC0_P4/WKPU[19], 5 PTE15/GPIO[143]/FCCU_ERR0/LPSPI2_SCK/eMIOS_0_CH[22]_X/CMP1_RRT/FXIO_D2/TRGMUX_OUT6/FCCU_ERR_IN0/LPUART1_CTS/LPUART3_RX/EIRQ[14]/ADC0_P3, 9 PTE11/GPIO[139]/LPUART4_TX/LPSPI2_PCS0/eMIOS_0_CH[1]_G/eMIOS_0_CH[21]_Y/FXIO_D5/TRGMUX_OUT5/EIRQ[10]/WKPU[28]/ADC0_P6, 10 PTE10/GPIO[138]/LPSPI3_SIN/LPSPI2_PCS1/eMIOS_0_CH[20]_Y/CLKOUT_STANDBY/FXIO_D4/TRGMUX_OUT4/LPUART4_RX/EIRQ[9]/ADC0_P5, 11 PTE13/GPIO[141]/eMIOS_1_CH[5]_H/LPSPI2_PCS2/LPSPI2_PCS0/FXIO_D5/EIRQ[12]/VRC_CTRL/ADC1_S19, 12 PTE5/GPIO[133]/eMIOS_1_CH[5]_H/eMIOS_0_CH[19]_Y/FXIO_D7/LPUART12_RX/EIRQ[5]/ADC2_S8/WKPU[32], 13 PTE4/GPIO[132]/LPSPI0_PCS0/LPSPI1_PCS1/eMIOS_1_CH[4]_H/eMIOS_0_CH[18]_Y/LPUART12_TX/FXIO_D6/EIRQ[4]/ADC2_S9, 26 PTE14/GPIO[142]/eMIOS_0_CH[19]_Y/LPUART5_TX/FXIO_D7/EMAC_PPS1/CAN4_RX/EIRQ[13]/WKPU[30], 27 PTE3/GPIO[131]/CAN4_TX/eMIOS_0_CH[19]_Y/FXIO_D6/LPUART2_RTS/EMAC_PPS0/CMP0_OUT/LPUART5_RX/EIRQ[3]/TRGMUX_IN6, 29 PTE12/GPIO[140]/CAN5_TX/LPUART2_TX/eMIOS_1_CH[5]_H/EMAC_PPS3/FXIO_D8/EIRQ[11], 36 PTE9/GPIO[137]/LPSPI5_SOUT/eMIOS_0_CH[7]_G/eMIOS_1_CH[13]_H/CAN3_TX/EMAC_PPS3/EMAC_MII_RMII_TX_EN/FXIO_D11/LPUART2_CTS/EIRQ[8]/CMP0_IN0, 46 PTE8/GPIO[136]/LPSPI3_PCS1/eMIOS_0_CH[6]_G/LPSPI5_PCS1/FXIO_D12/EMAC_MII_RMII_MDC/SAI1_BCLK/FXIO_D8/EIRQ[7]/CMP0_IN3, 104 PTE7/GPIO[135]/eMIOS_0_CH[7]_G/LPSPI3_SCK/FXIO_D11/LPUART4_RX/ADC2_S20, 142 PTE17/GPIO[145]/FXIO_D5/eMIOS_2_CH[23]_X/ADC2_S10/ADC1_S22, 144 PTE18/GPIO[146]/FXIO_D4/eMIOS_2_CH[17]_Y/ADC2_S11/WKPU[55]/ADC1_S23, 146 PTE6/GPIO[134]/LPSPI0_PCS2/LPUART1_RTS/eMIOS_1_CH[14]_H/LPUART10_TX/FXIO_D12/ADC0_MA[1]/EIRQ[6]/ADC1_P6/WKPU[29], 147 PTE2/GPIO[130]/LPSPI0_SOUT/eMIOS_0_CH[3]_G/eMIOS_1_CH[8]_X/FXIO_D13/ADC0_MA[0]/LPUART1_CTS/LPUART10_RX/EIRQ[2]/WKPU[27]/ADC1_P5, 153 PTE21/GPIO[149]/eMIOS_1_CH[1]_H/eMIOS_2_CH[19]_Y/LPSPI4_SIN/WKPU[56]/ADC2_P3, 154 PTE22/GPIO[150]/eMIOS_1_CH[2]_H/eMIOS_2_CH[20]_Y/LPSPI4_SCK/ADC2_P4, 156 PTE23/GPIO[151]/eMIOS_1_CH[3]_H/eMIOS_2_CH[21]_Y/LPSPI4_PCS0/WKPU[57]/ADC2_P5, 157 PTE24/GPIO[152]/eMIOS_1_CH[4]_H/CAN2_TX/eMIOS_2_CH[4]_H/FXIO_D5/LPSPI4_PCS1/FXIO_D11/ADC2_S13, 158 PTE25/GPIO[153]/eMIOS_1_CH[5]_H/eMIOS_2_CH[5]_H/LPSPI4_SOUT/CAN2_RX/WKPU[58]/ADC2_P7, 162 PTE1/GPIO[129]/LPSPI0_SCK/FXIO_D2/LPUART7_TX/EIRQ[1]/ADC1_P3, 163 PTE0/GPIO[128]/LPSPI0_SIN/FXIO_D3/LPUART7_RX/EIRQ[0]/WKPU[26]/ADC1_P2, 164 PTE26/GPIO[154]/eMIOS_1_CH[6]_H/eMIOS_2_CH[6]_H/ADC2_P6
part D pins: 16 VREFH, 17 VREFL, 18 VDD_HV_A_1 (power), 19 V25, 20 V15_1, 21 V11_1, 22 VSS_1 (power), 23 EXTAL, 24 VSS_2 (power), 25 XTAL, 37 VSS_3 (power), 38 VDD_HV_B_1 (power), 57 VDD_HV_B_2 (power), 58 VSS_4 (power), 59 V11_2, 60 V15_2, 77 VDD_HV_B_3 (power), 78 VSS_5 (power), 105 V15_3, 106 V11_3, 107 VSS_6 (power), 108 VDD_HV_A_2 (power), 127 VSS_7 (power), 128 VDD_HV_A_3 (power), 148 V15_4, 149 V11_4, 150 VSS_8 (power), 151 VDD_HV_A_4 (power), 168 VSS_9 (power), 169 VDD_HV_A_5 (power)

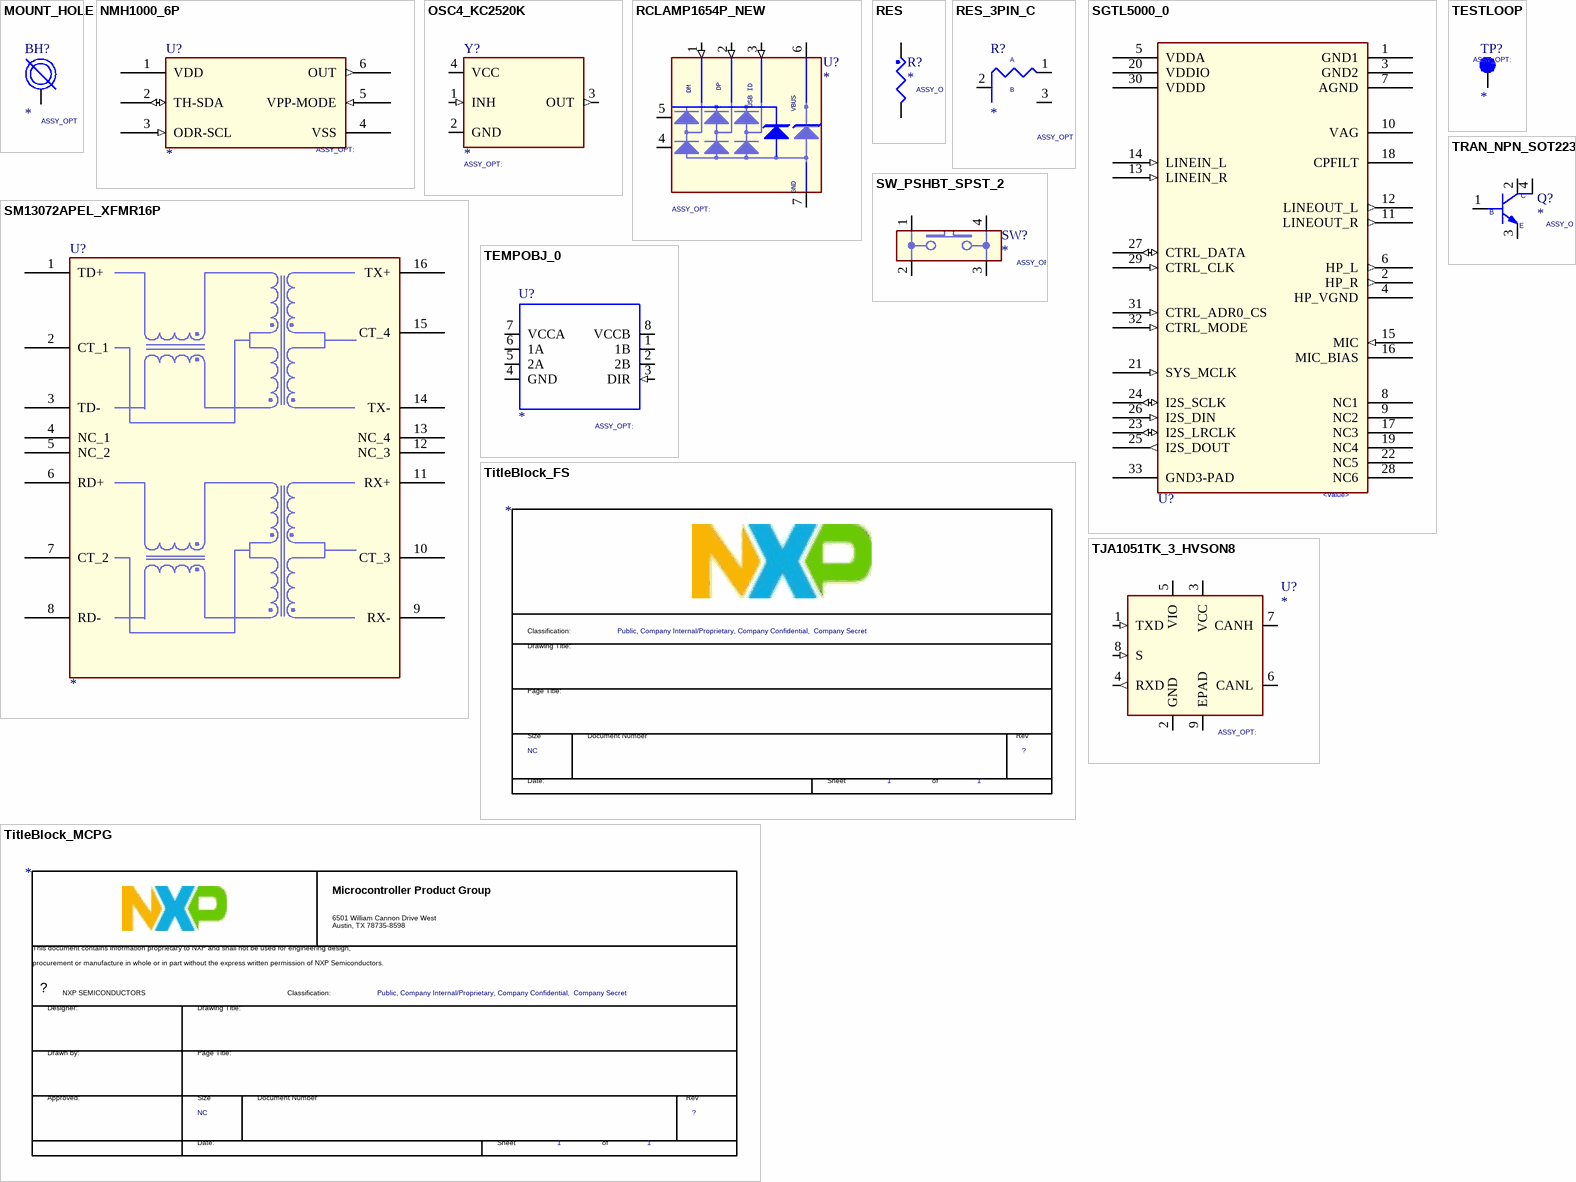
[diagram p3: symbols MOUNT_HOLE to TRAN_NPN_SOT223]

## MOUNT_HOLE
designator BH?
CLASS: IC
pins: 1

## NMH1000_6P
designator U?
CLASS: IC
pins: 1 VDD (power), 2 TH-SDA (io), 3 ODR-SCL (in), 4 VSS (power), 5 VPP-MODE (in), 6 OUT (out)

## OSC4_KC2520K
designator Y?
CLASS: IC
pins: 1 INH (in), 2 GND (power), 3 OUT (out), 4 VCC (power)

## RCLAMP1654P_NEW
designator U?
CLASS: IC
pins: 1 DM (in), 2 DP (in), 3 USB ID (in), 4 NC1, 5 NC2, 6 VBUS (power), 7 GND (power)

## RES
designator R?
CLASS: DISCRETE
pins: 1, 2

## RES_3PIN_C
designator R?
CLASS: DISCRETE
pins: 1, 2, 3
text: A; B

## SGTL5000_0
designator U?, comment <Value>
pins: 1 GND1 (power), 2 HP_R (out), 3 GND2 (power), 4 HP_VGND (power), 5 VDDA (power), 6 HP_L (out), 7 AGND (power), 8 NC1, 9 NC2, 10 VAG, 11 LINEOUT_R (out), 12 LINEOUT_L (out), 13 LINEIN_R (in), 14 LINEIN_L (in), 15 MIC (in), 16 MIC_BIAS (power), 17 NC3, 18 CPFILT, 19 NC4, 20 VDDIO (power), 21 SYS_MCLK (in), 22 NC5, 23 I2S_LRCLK (io), 24 I2S_SCLK (io), 25 I2S_DOUT (out), 26 I2S_DIN (in), 27 CTRL_DATA (io), 28 NC6, 29 CTRL_CLK (in), 30 VDDD (power), 31 CTRL_ADR0_CS (in), 32 CTRL_MODE (in), 33 GND3-PAD (power)

## SM13072APEL_XFMR16P
designator U?
CLASS: IC
pins: 1 TD+, 2 CT_1, 3 TD-, 4 NC_1, 5 NC_2, 6 RD+, 7 CT_2, 8 RD-, 9 RX-, 10 CT_3, 11 RX+, 12 NC_3, 13 NC_4, 14 TX-, 15 CT_4, 16 TX+

## SW_PSHBT_SPST_2
designator SW?
CLASS: IC
pins: 1, 2, 3, 4

## TEMPOBJ_0
designator U?
CLASS: IC
pins: 1 1B (io), 2 2B (io), 3 DIR (in), 4 GND (power), 5 2A (io), 6 1A (io), 7 VCCA (power), 8 VCCB (power)

## TESTLOOP
designator TP?
CLASS: IO
pins: 1 Pin1

## TitleBlock_FS
designator *  Page Size: NC  Page Number: 1  Classification: Public, Company Internal/Proprietary, Company Confidential,  Company Secret  (graphical)
RevCode: ?; Page Create Date: March  8, 1995; Page Count: 1
text: Classification:; Drawing Title:; Page Title:; Size; Document Number; Rev; Date:; Sheet; of

## TitleBlock_MCPG
designator *  Page Size: NC  Page Number: 1  Classification: Public, Company Internal/Proprietary, Company Confidential,  Company Secret  (graphical)
RevCode: ?; Page Create Date: March  8, 1995; Page Count: 1
text: Microcontroller Product Group; 6501 William Cannon Drive West / Austin, TX 78735-8598; This document contains information proprietary to NXP and shall not be used for engineering design,; procurement or manufacture in whole or in part without the express written permission of NXP Semiconductors.; NXP SEMICONDUCTORS; Classification:; Designer:; Drawing Title:; Drawn by:; Page Title:; Approved:; Size; Document Number; Rev; Date:; Sheet; of

## TJA1051TK_3_HVSON8
designator U?
CLASS: IC
pins: 1 TXD (in), 2 GND (power), 3 VCC (power), 4 RXD (out), 5 VIO (power), 6 CANL (io), 7 CANH (io), 8 S (in), 9 EPAD (power)

## TRAN_NPN_SOT223
designator Q?
CLASS: IC
pins: 1 BASE, 2 COLLECTOR, 3 EMITTER, 4 COLLECTOR1
text: C; B; E

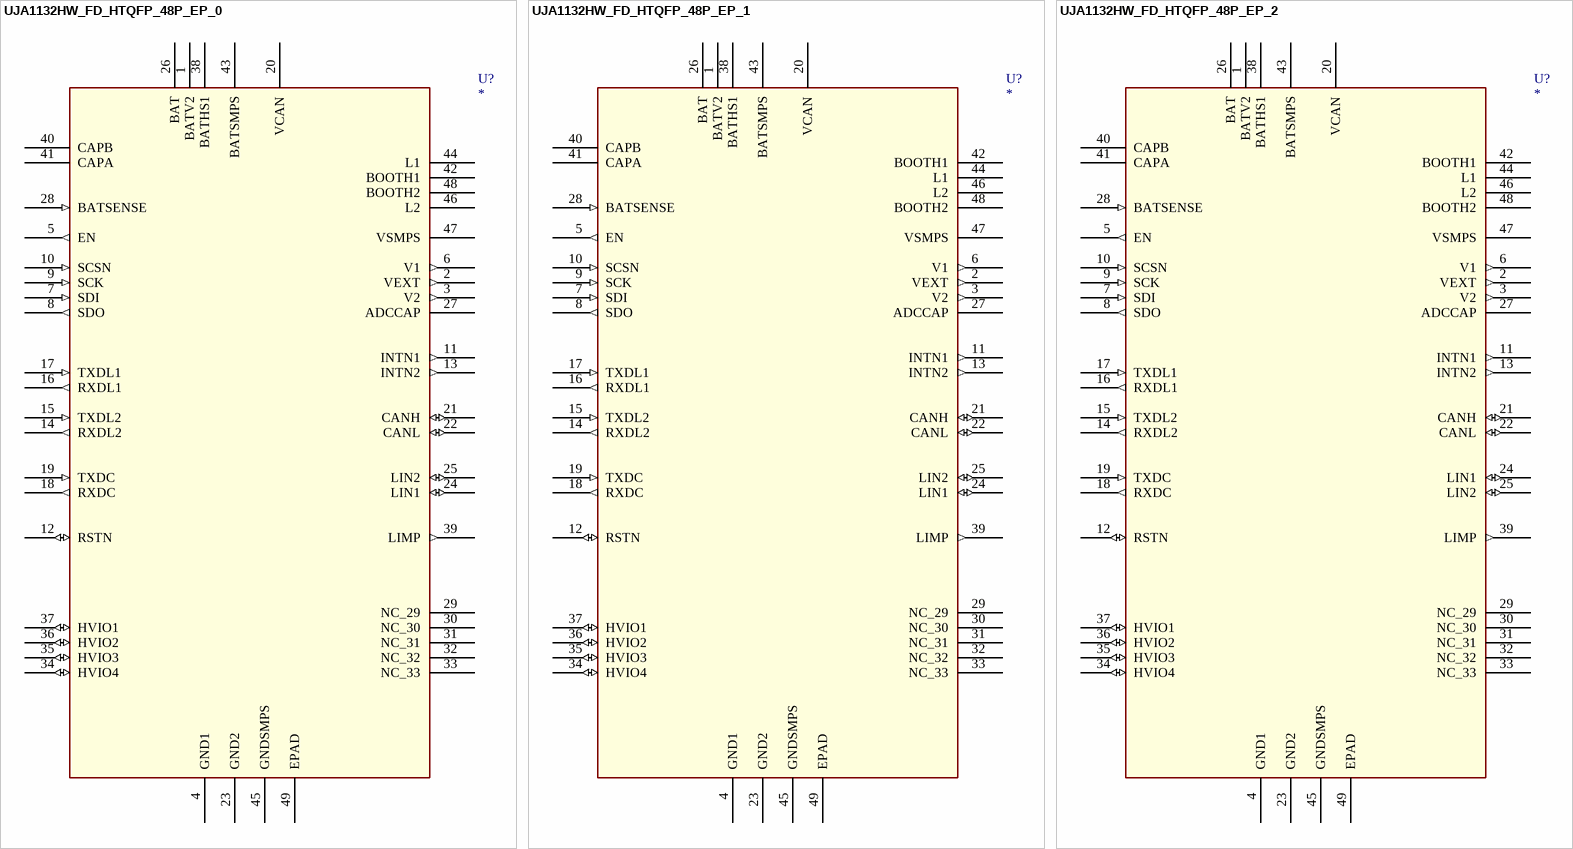
[diagram p4: symbols UJA1132HW_FD_HTQFP_48P_EP_0 to UJA1132HW_FD_HTQFP_48P_EP_2]

## UJA1132HW_FD_HTQFP_48P_EP_0
designator U?
CLASS: IC
pins: 1 BATV2 (power), 2 VEXT (out), 3 V2 (out), 4 GND1 (power), 5 EN (out), 6 V1 (out), 7 SDI (in), 8 SDO (out), 9 SCK (in), 10 SCSN (in), 11 INTN1 (out), 12 RSTN (io), 13 INTN2 (out), 14 RXDL2 (out), 15 TXDL2 (in), 16 RXDL1 (out), 17 TXDL1 (in), 18 RXDC (out), 19 TXDC (in), 20 VCAN (power), 21 CANH (io), 22 CANL (io), 23 GND2 (power), 24 LIN1 (io), 25 LIN2 (io), 26 BAT (power), 27 ADCCAP, 28 BATSENSE (in), 29 NC_29, 30 NC_30, 31 NC_31, 32 NC_32, 33 NC_33, 34 HVIO4 (io), 35 HVIO3 (io), 36 HVIO2 (io), 37 HVIO1 (io), 38 BATHS1 (power), 39 LIMP (out), 40 CAPB, 41 CAPA, 42 BOOTH1, 43 BATSMPS (power), 44 L1, 45 GNDSMPS (power), 46 L2, 47 VSMPS (power), 48 BOOTH2, 49 EPAD (power)

## UJA1132HW_FD_HTQFP_48P_EP_1
designator U?
CLASS: IC
pins: 1 BATV2 (power), 2 VEXT (out), 3 V2 (out), 4 GND1 (power), 5 EN (out), 6 V1 (out), 7 SDI (in), 8 SDO (out), 9 SCK (in), 10 SCSN (in), 11 INTN1 (out), 12 RSTN (io), 13 INTN2 (out), 14 RXDL2 (out), 15 TXDL2 (in), 16 RXDL1 (out), 17 TXDL1 (in), 18 RXDC (out), 19 TXDC (in), 20 VCAN (power), 21 CANH (io), 22 CANL (io), 23 GND2 (power), 24 LIN1 (io), 25 LIN2 (io), 26 BAT (power), 27 ADCCAP, 28 BATSENSE (in), 29 NC_29, 30 NC_30, 31 NC_31, 32 NC_32, 33 NC_33, 34 HVIO4 (io), 35 HVIO3 (io), 36 HVIO2 (io), 37 HVIO1 (io), 38 BATHS1 (power), 39 LIMP (out), 40 CAPB, 41 CAPA, 42 BOOTH1, 43 BATSMPS (power), 44 L1, 45 GNDSMPS (power), 46 L2, 47 VSMPS (power), 48 BOOTH2, 49 EPAD (power)

## UJA1132HW_FD_HTQFP_48P_EP_2
designator U?
CLASS: IC
pins: 1 BATV2 (power), 2 VEXT (out), 3 V2 (out), 4 GND1 (power), 5 EN (out), 6 V1 (out), 7 SDI (in), 8 SDO (out), 9 SCK (in), 10 SCSN (in), 11 INTN1 (out), 12 RSTN (io), 13 INTN2 (out), 14 RXDL2 (out), 15 TXDL2 (in), 16 RXDL1 (out), 17 TXDL1 (in), 18 RXDC (out), 19 TXDC (in), 20 VCAN (power), 21 CANH (io), 22 CANL (io), 23 GND2 (power), 24 LIN1 (io), 25 LIN2 (io), 26 BAT (power), 27 ADCCAP, 28 BATSENSE (in), 29 NC_29, 30 NC_30, 31 NC_31, 32 NC_32, 33 NC_33, 34 HVIO4 (io), 35 HVIO3 (io), 36 HVIO2 (io), 37 HVIO1 (io), 38 BATHS1 (power), 39 LIMP (out), 40 CAPB, 41 CAPA, 42 BOOTH1, 43 BATSMPS (power), 44 L1, 45 GNDSMPS (power), 46 L2, 47 VSMPS (power), 48 BOOTH2, 49 EPAD (power)

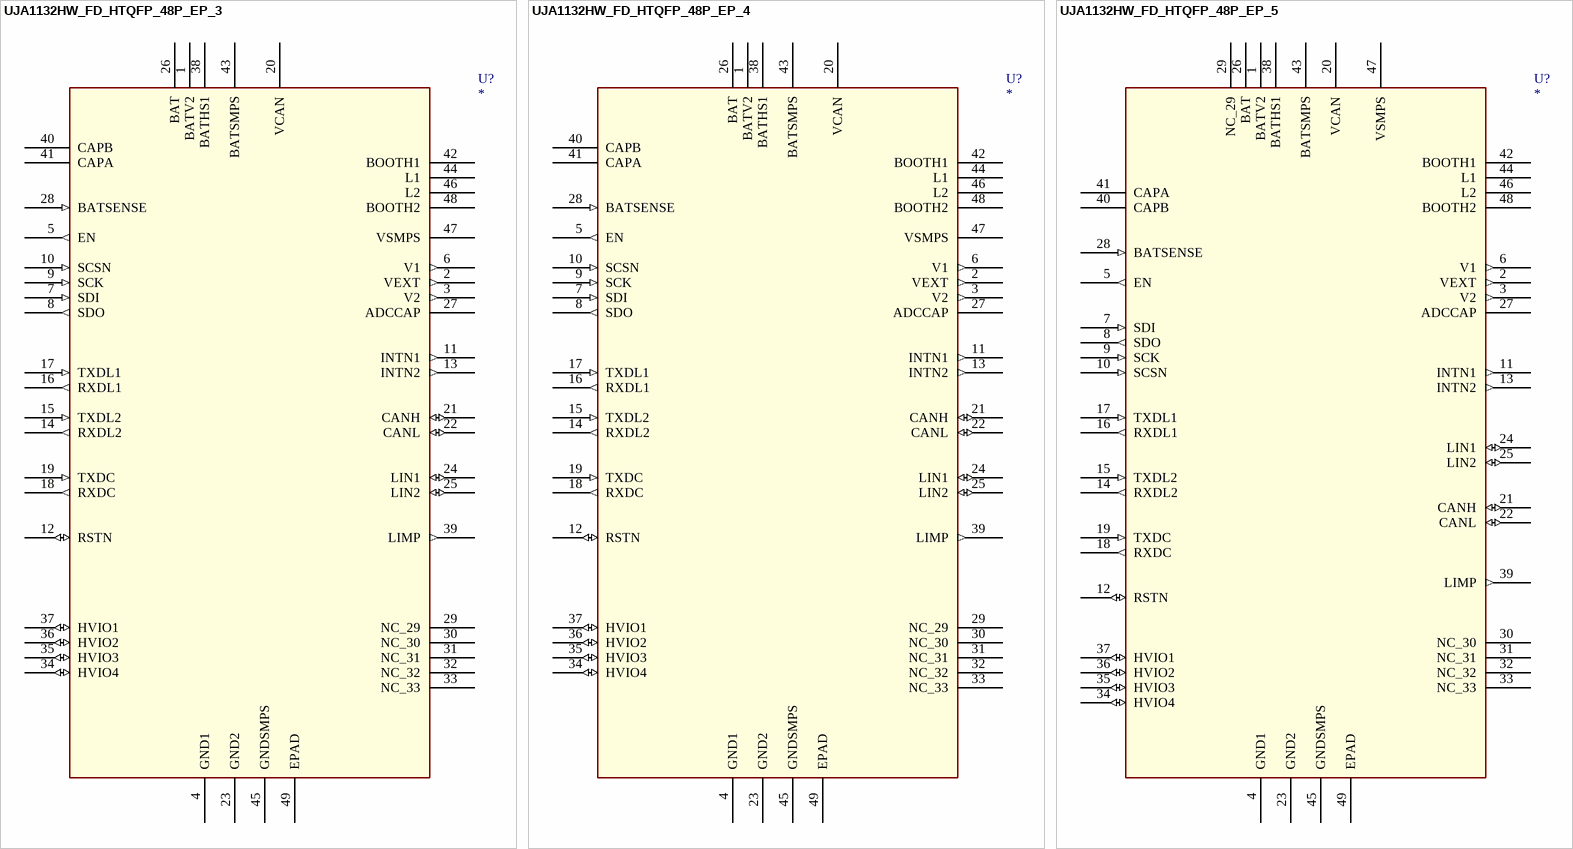
[diagram p5: symbols UJA1132HW_FD_HTQFP_48P_EP_3 to UJA1132HW_FD_HTQFP_48P_EP_5]

## UJA1132HW_FD_HTQFP_48P_EP_3
designator U?
CLASS: IC
pins: 1 BATV2 (power), 2 VEXT (out), 3 V2 (out), 4 GND1 (power), 5 EN (out), 6 V1 (out), 7 SDI (in), 8 SDO (out), 9 SCK (in), 10 SCSN (in), 11 INTN1 (out), 12 RSTN (io), 13 INTN2 (out), 14 RXDL2 (out), 15 TXDL2 (in), 16 RXDL1 (out), 17 TXDL1 (in), 18 RXDC (out), 19 TXDC (in), 20 VCAN (power), 21 CANH (io), 22 CANL (io), 23 GND2 (power), 24 LIN1 (io), 25 LIN2 (io), 26 BAT (power), 27 ADCCAP, 28 BATSENSE (in), 29 NC_29, 30 NC_30, 31 NC_31, 32 NC_32, 33 NC_33, 34 HVIO4 (io), 35 HVIO3 (io), 36 HVIO2 (io), 37 HVIO1 (io), 38 BATHS1 (power), 39 LIMP (out), 40 CAPB, 41 CAPA, 42 BOOTH1, 43 BATSMPS (power), 44 L1, 45 GNDSMPS (power), 46 L2, 47 VSMPS (power), 48 BOOTH2, 49 EPAD (power)

## UJA1132HW_FD_HTQFP_48P_EP_4
designator U?
CLASS: IC
pins: 1 BATV2 (power), 2 VEXT (out), 3 V2 (out), 4 GND1 (power), 5 EN (out), 6 V1 (out), 7 SDI (in), 8 SDO (out), 9 SCK (in), 10 SCSN (in), 11 INTN1 (out), 12 RSTN (io), 13 INTN2 (out), 14 RXDL2 (out), 15 TXDL2 (in), 16 RXDL1 (out), 17 TXDL1 (in), 18 RXDC (out), 19 TXDC (in), 20 VCAN (power), 21 CANH (io), 22 CANL (io), 23 GND2 (power), 24 LIN1 (io), 25 LIN2 (io), 26 BAT (power), 27 ADCCAP, 28 BATSENSE (in), 29 NC_29, 30 NC_30, 31 NC_31, 32 NC_32, 33 NC_33, 34 HVIO4 (io), 35 HVIO3 (io), 36 HVIO2 (io), 37 HVIO1 (io), 38 BATHS1 (power), 39 LIMP (out), 40 CAPB, 41 CAPA, 42 BOOTH1, 43 BATSMPS (power), 44 L1, 45 GNDSMPS (power), 46 L2, 47 VSMPS (power), 48 BOOTH2, 49 EPAD (power)

## UJA1132HW_FD_HTQFP_48P_EP_5
designator U?
CLASS: IC
pins: 1 BATV2 (power), 2 VEXT (out), 3 V2 (out), 4 GND1 (power), 5 EN (out), 6 V1 (out), 7 SDI (in), 8 SDO (out), 9 SCK (in), 10 SCSN (in), 11 INTN1 (out), 12 RSTN (io), 13 INTN2 (out), 14 RXDL2 (out), 15 TXDL2 (in), 16 RXDL1 (out), 17 TXDL1 (in), 18 RXDC (out), 19 TXDC (in), 20 VCAN (power), 21 CANH (io), 22 CANL (io), 23 GND2 (power), 24 LIN1 (io), 25 LIN2 (io), 26 BAT (power), 27 ADCCAP, 28 BATSENSE (in), 29 NC_29, 30 NC_30, 31 NC_31, 32 NC_32, 33 NC_33, 34 HVIO4 (io), 35 HVIO3 (io), 36 HVIO2 (io), 37 HVIO1 (io), 38 BATHS1 (power), 39 LIMP (out), 40 CAPB, 41 CAPA, 42 BOOTH1, 43 BATSMPS (power), 44 L1, 45 GNDSMPS (power), 46 L2, 47 VSMPS (power), 48 BOOTH2, 49 EPAD (power)

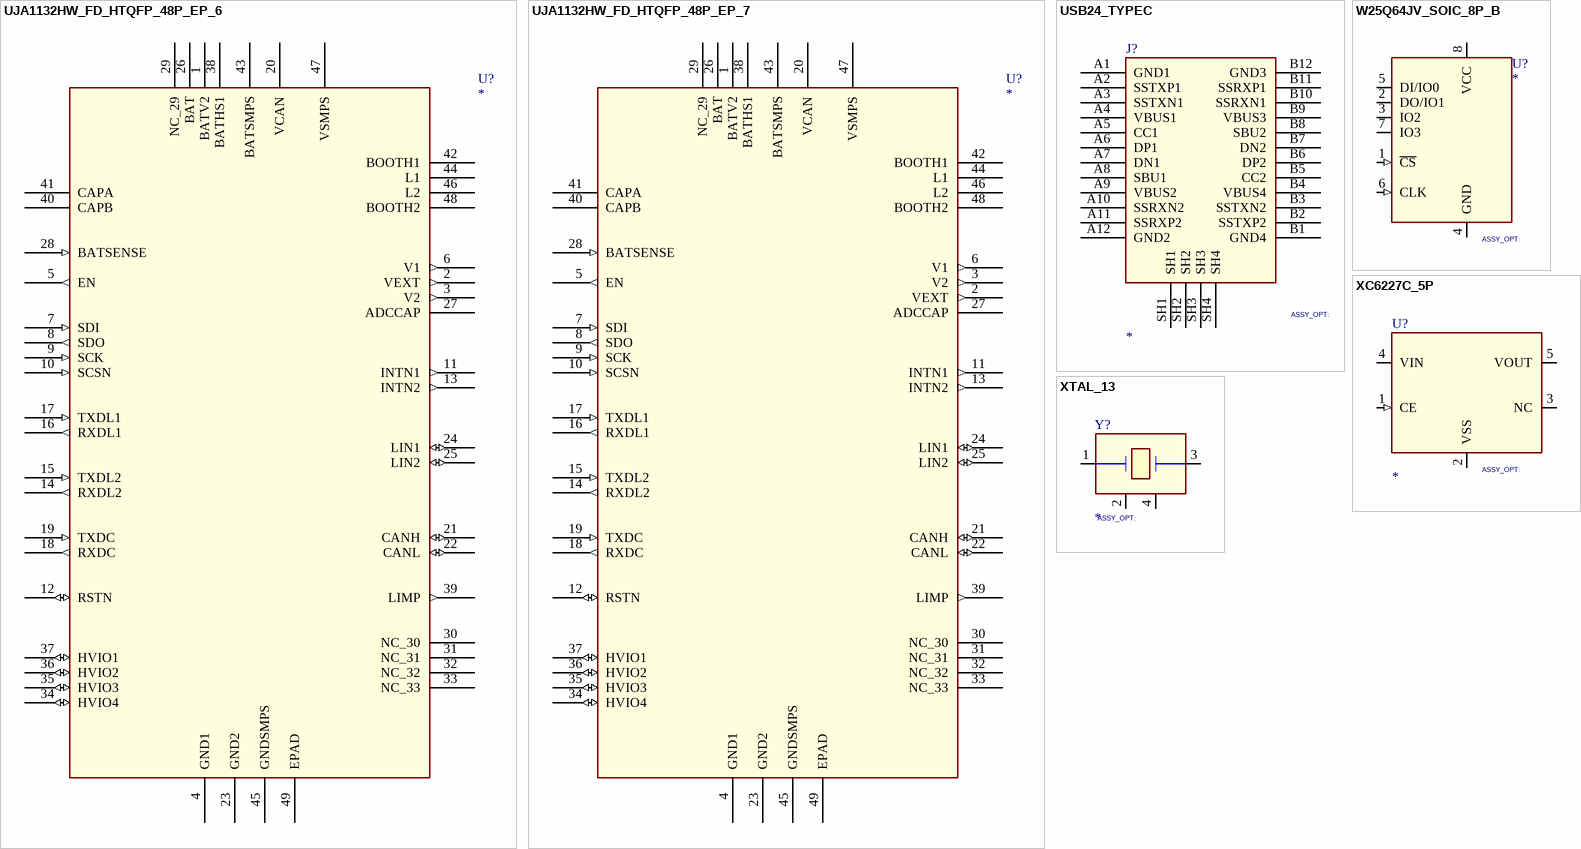
[diagram p6: symbols UJA1132HW_FD_HTQFP_48P_EP_6 to XTAL_13]

## UJA1132HW_FD_HTQFP_48P_EP_6
designator U?
CLASS: IC
pins: 1 BATV2 (power), 2 VEXT (out), 3 V2 (out), 4 GND1 (power), 5 EN (out), 6 V1 (out), 7 SDI (in), 8 SDO (out), 9 SCK (in), 10 SCSN (in), 11 INTN1 (out), 12 RSTN (io), 13 INTN2 (out), 14 RXDL2 (out), 15 TXDL2 (in), 16 RXDL1 (out), 17 TXDL1 (in), 18 RXDC (out), 19 TXDC (in), 20 VCAN (power), 21 CANH (io), 22 CANL (io), 23 GND2 (power), 24 LIN1 (io), 25 LIN2 (io), 26 BAT (power), 27 ADCCAP, 28 BATSENSE (in), 29 NC_29, 30 NC_30, 31 NC_31, 32 NC_32, 33 NC_33, 34 HVIO4 (io), 35 HVIO3 (io), 36 HVIO2 (io), 37 HVIO1 (io), 38 BATHS1 (power), 39 LIMP (out), 40 CAPB, 41 CAPA, 42 BOOTH1, 43 BATSMPS (power), 44 L1, 45 GNDSMPS (power), 46 L2, 47 VSMPS (power), 48 BOOTH2, 49 EPAD (power)

## UJA1132HW_FD_HTQFP_48P_EP_7
designator U?
CLASS: IC
pins: 1 BATV2 (power), 2 VEXT (out), 3 V2 (out), 4 GND1 (power), 5 EN (out), 6 V1 (out), 7 SDI (in), 8 SDO (out), 9 SCK (in), 10 SCSN (in), 11 INTN1 (out), 12 RSTN (io), 13 INTN2 (out), 14 RXDL2 (out), 15 TXDL2 (in), 16 RXDL1 (out), 17 TXDL1 (in), 18 RXDC (out), 19 TXDC (in), 20 VCAN (power), 21 CANH (io), 22 CANL (io), 23 GND2 (power), 24 LIN1 (io), 25 LIN2 (io), 26 BAT (power), 27 ADCCAP, 28 BATSENSE (in), 29 NC_29, 30 NC_30, 31 NC_31, 32 NC_32, 33 NC_33, 34 HVIO4 (io), 35 HVIO3 (io), 36 HVIO2 (io), 37 HVIO1 (io), 38 BATHS1 (power), 39 LIMP (out), 40 CAPB, 41 CAPA, 42 BOOTH1, 43 BATSMPS (power), 44 L1, 45 GNDSMPS (power), 46 L2, 47 VSMPS (power), 48 BOOTH2, 49 EPAD (power)

## USB24_TYPEC
designator J?
CLASS: IO
pins: A1 GND1 (power), A2 SSTXP1, A3 SSTXN1, A4 VBUS1, A5 CC1, A6 DP1, A7 DN1, A8 SBU1, A9 VBUS2, A10 SSRXN2, A11 SSRXP2, A12 GND2 (power), B1 GND4 (power), B2 SSTXP2, B3 SSTXN2, B4 VBUS4, B5 CC2, B6 DP2, B7 DN2, B8 SBU2, B9 VBUS3, B10 SSRXN1, B11 SSRXP1, B12 GND3 (power), SH1 (power), SH2 (power), SH3 (power), SH4 (power)

## W25Q64JV_SOIC_8P_B
designator U?
CLASS: IC
pins: 1 ~{CS} (in), 2 DO/IO1 (io), 3 IO2 (io), 4 GND (power), 5 DI/IO0 (io), 6 CLK (in), 7 IO3 (io), 8 VCC (power)

## XC6227C_5P
designator U?
CLASS: IC
pins: 1 CE (in), 2 VSS (power), 3 NC, 4 VIN (power), 5 VOUT (power)

## XTAL_13
designator Y?
CLASS: IC
pins: 1, 2, 3, 4